# EAGLE library part LM2743 (library WCSMain)
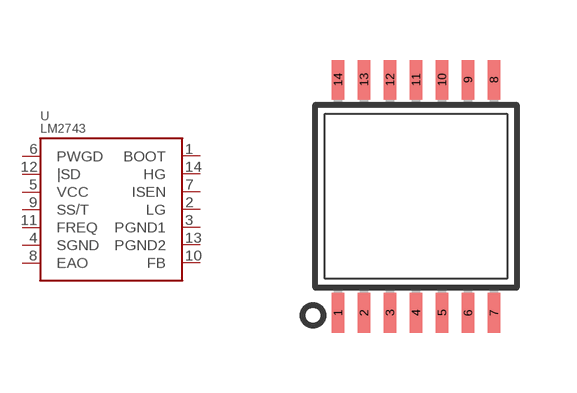
[diagram p6: symbol with the pads of TSSOP14; footprint TSSOP14]

Designator prefix -

## LM2743  [TSSOP14]
1  BOOT  in
2  LG  in
3  PGND1  pwr
4  SGND  pwr
5  VCC  pwr
6  PWGD  out
7  ISEN  pas
8  EAO  out
9  SS/T  pas
10  FB  in
11  FREQ  pas
12  |SD  in
13  PGND2  pwr
14  HG  in

## Footprint TSSOP14 (pad centres in mm)
Thin Shrink Small Outline Plastic 14 MAX3223-MAX3243.pdf
smd 0.305 x 0.991: 1 -1.95,-2.918; 2 -1.3,-2.918; 3 -0.65,-2.918; 4 0,-2.918; 5 0.65,-2.918; 6 1.3,-2.918; 7 1.95,-2.918; 8 1.95,2.918; 9 1.3,2.918; 10 0.65,2.918; 11 0,2.918; 12 -0.65,2.918; 13 -1.3,2.918; 14 -1.95,2.918